# EAGLE library part AX8052F100 (library axsem_v4-11)
AXSEM ultra low power 8052 micro controller for RF applications 64 kByte FLASH 8.25 kByte RAM 170 uA/MHz RF-SPI interface for connection of AXSEM RF-chips
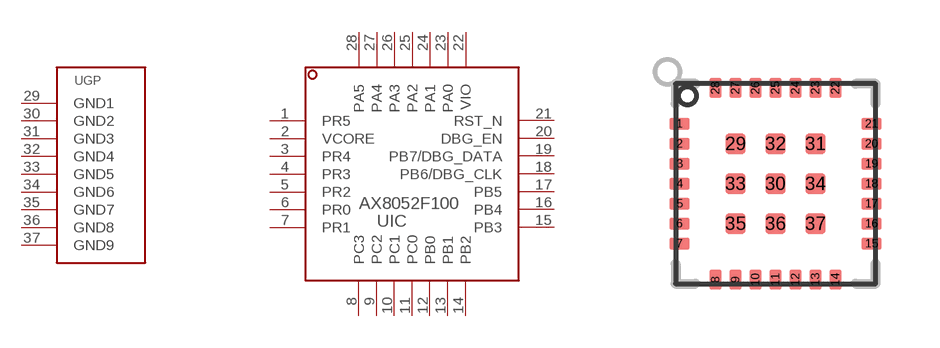
[diagram p8: symbol with the pads of QFN28; footprint QFN28]

Designator prefix U; gates IC=AX8052F100 GP=GROUNDPAD

## AX8052F100N  [QFN28]
1  IC:PR5
2  IC:VCORE  pwr
3  IC:PR4
4  IC:PR3
5  IC:PR2
6  IC:PR0
7  IC:PR1
8  IC:PC3
9  IC:PC2
10  IC:PC1
11  IC:PC0
12  IC:PB0
13  IC:PB1
14  IC:PB2
15  IC:PB3
16  IC:PB4
17  IC:PB5
18  IC:PB6/DBG_CLK
19  IC:PB7/DBG_DATA
20  IC:DBG_EN  in
21  IC:RST_N  in
22  IC:VIO  pwr
23  IC:PA0
24  IC:PA1
25  IC:PA2
26  IC:PA3
27  IC:PA4
28  IC:PA5
29  GP:GND1  pwr
30  GP:GND2  pwr
31  GP:GND3  pwr
32  GP:GND4  pwr
33  GP:GND5  pwr
34  GP:GND6  pwr
35  GP:GND7  pwr
36  GP:GND8  pwr
37  GP:GND9  pwr

## Footprint QFN28 (pad centres in mm)
AXSEM QFN28 package
smd 0.5 x 0.3: 1 -2.4,1.5; 2 -2.4,1; 3 -2.4,0.5; 4 -2.4,0; 5 -2.4,-0.5; 6 -2.4,-1; 7 -2.4,-1.5; 15 2.4,-1.5; 16 2.4,-1; 17 2.4,-0.5; 18 2.4,0; 19 2.4,0.5; 20 2.4,1; 21 2.4,1.5
smd 0.3 x 0.5: 8 -1.5,-2.4; 9 -1,-2.4; 10 -0.5,-2.4; 11 0,-2.4; 12 0.5,-2.4; 13 1,-2.4; 14 1.5,-2.4; 22 1.5,2.4; 23 1,2.4; 24 0.5,2.4; 25 0,2.4; 26 -0.5,2.4; 27 -1,2.4; 28 -1.5,2.4
smd 0.5 x 0.5: 29 -1,1; 30 0,0; 31 1,1; 32 0,1; 33 -1,0; 34 1,0; 35 -1,-1; 36 0,-1; 37 1,-1